# Altium schematic symbol library Varistor.SchLib: 1 symbol
Pins are listed as number, name and electrical type; pins without a type are passive.

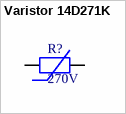
[diagram p0: symbol Varistor 14D271K]

## Varistor 14D271K
designator R?, comment 270V
footprint VARRB750W81L1700T500H2250
pins: 1, 2